# Altium footprint library SOP254P1000X425-4N_TLP241AF.PcbLib: 1 footprints
Each footprint in its own frame and in the unit in brackets; x right, y up, seen from the top. Pads: shape width x height; smd on the part's side, far side on the other; paste and mask are expansions set on the pad; w line width, h text height; cw(c..) or ccw(c..) is an arc to the next point about the centre after c.
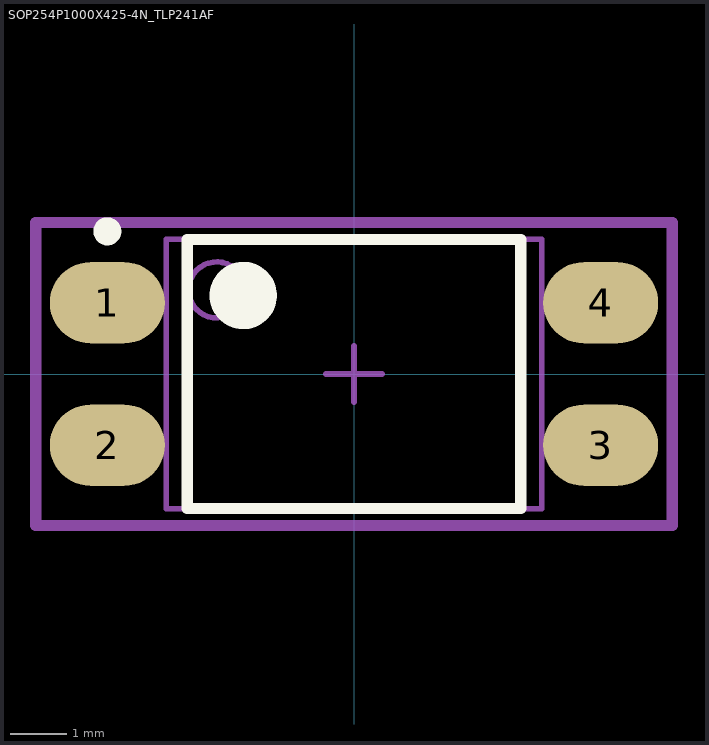
[diagram p0: the footprint, top view; thin cyan lines are the x and y axes]

## SOP254P1000X425-4N_TLP241AF [mm] "SOP, 4-Leads, Body 4.58x6.40mm, Pitch 2.54mm, IPC Medium Density"
height 4.25
pads (4):
  oval 2.05x1.45 smd: 1(-4.4,1.27) 2(-4.4,-1.27) 3(4.4,-1.27) 4(4.4,1.27)
Top Overlay:
  circle w0.6: c-1.975,1.4 r0.3
  circle w0.25: c-4.4,2.545 r0.125
  lines w0.2: -2.975,-2.4 2.975,-2.4 2.975,2.4 -2.975,2.4 -2.975,-2.4
Top Comp Asy Info:
  circle w0.1: c-2.45,1.5 r0.5
  lines w0.1: -3.35,-2.4 3.35,-2.4 3.35,2.4 -3.35,2.4 -3.35,-2.4
Top Courtyards/Models:
  lines w0.1: -0.5,0 0.5,0 ; 0,-0.5 0,0.5
  lines w0.2: -5.675,-2.7 5.675,-2.7 5.675,2.7 -5.675,2.7 -5.675,-2.7
3D body "SOP254P1000X425-4N.step": height 4.25, standoff 0, extent -5,-2.4 5,2.4